# Altium schematic symbol library MCAS648075-150U.SchLib: 1 symbol
Pins are listed as number, name and electrical type; pins without a type are passive.

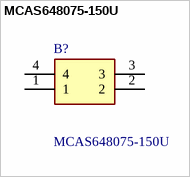
[diagram p0: symbol MCAS648075-150U]

## MCAS648075-150U
designator B?
EMI Line Filter 15uH, 500mA, 50V; Manufacturer_Name: Multicomp Pro; Geometry.Height: 8mm; Farnell Part Number: *; Farnell Price/Stock: *; Manufacturer_Part_Number: MCAS648075-150U; Datasheet Link: *
footprint MCAS648075150U
pins: 1, 2, 3, 4